# Altium schematic symbol library Diodes.SchLib: 2 symbols
Pins are listed as number, name and electrical type; pins without a type are passive.

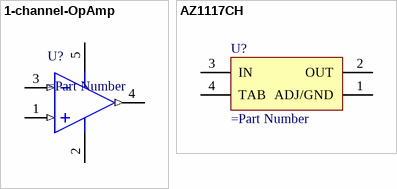
[diagram p0: symbols 1-channel-OpAmp to AZ1117CH]

## 1-channel-OpAmp
designator U?
pins: 1 IN+ (in), 2 V- (power), 3 IN- (in), 4 OUT (out), 5 V+ (power)

## AZ1117CH
designator U?
pins: 1 ADJ/GND (power), 2 OUT (power), 3 IN (power), 4 TAB (power)